# Altium schematic symbol library WeSchLib.SchLib: 56 symbols
Pins are listed as number, name and electrical type; pins without a type are passive.

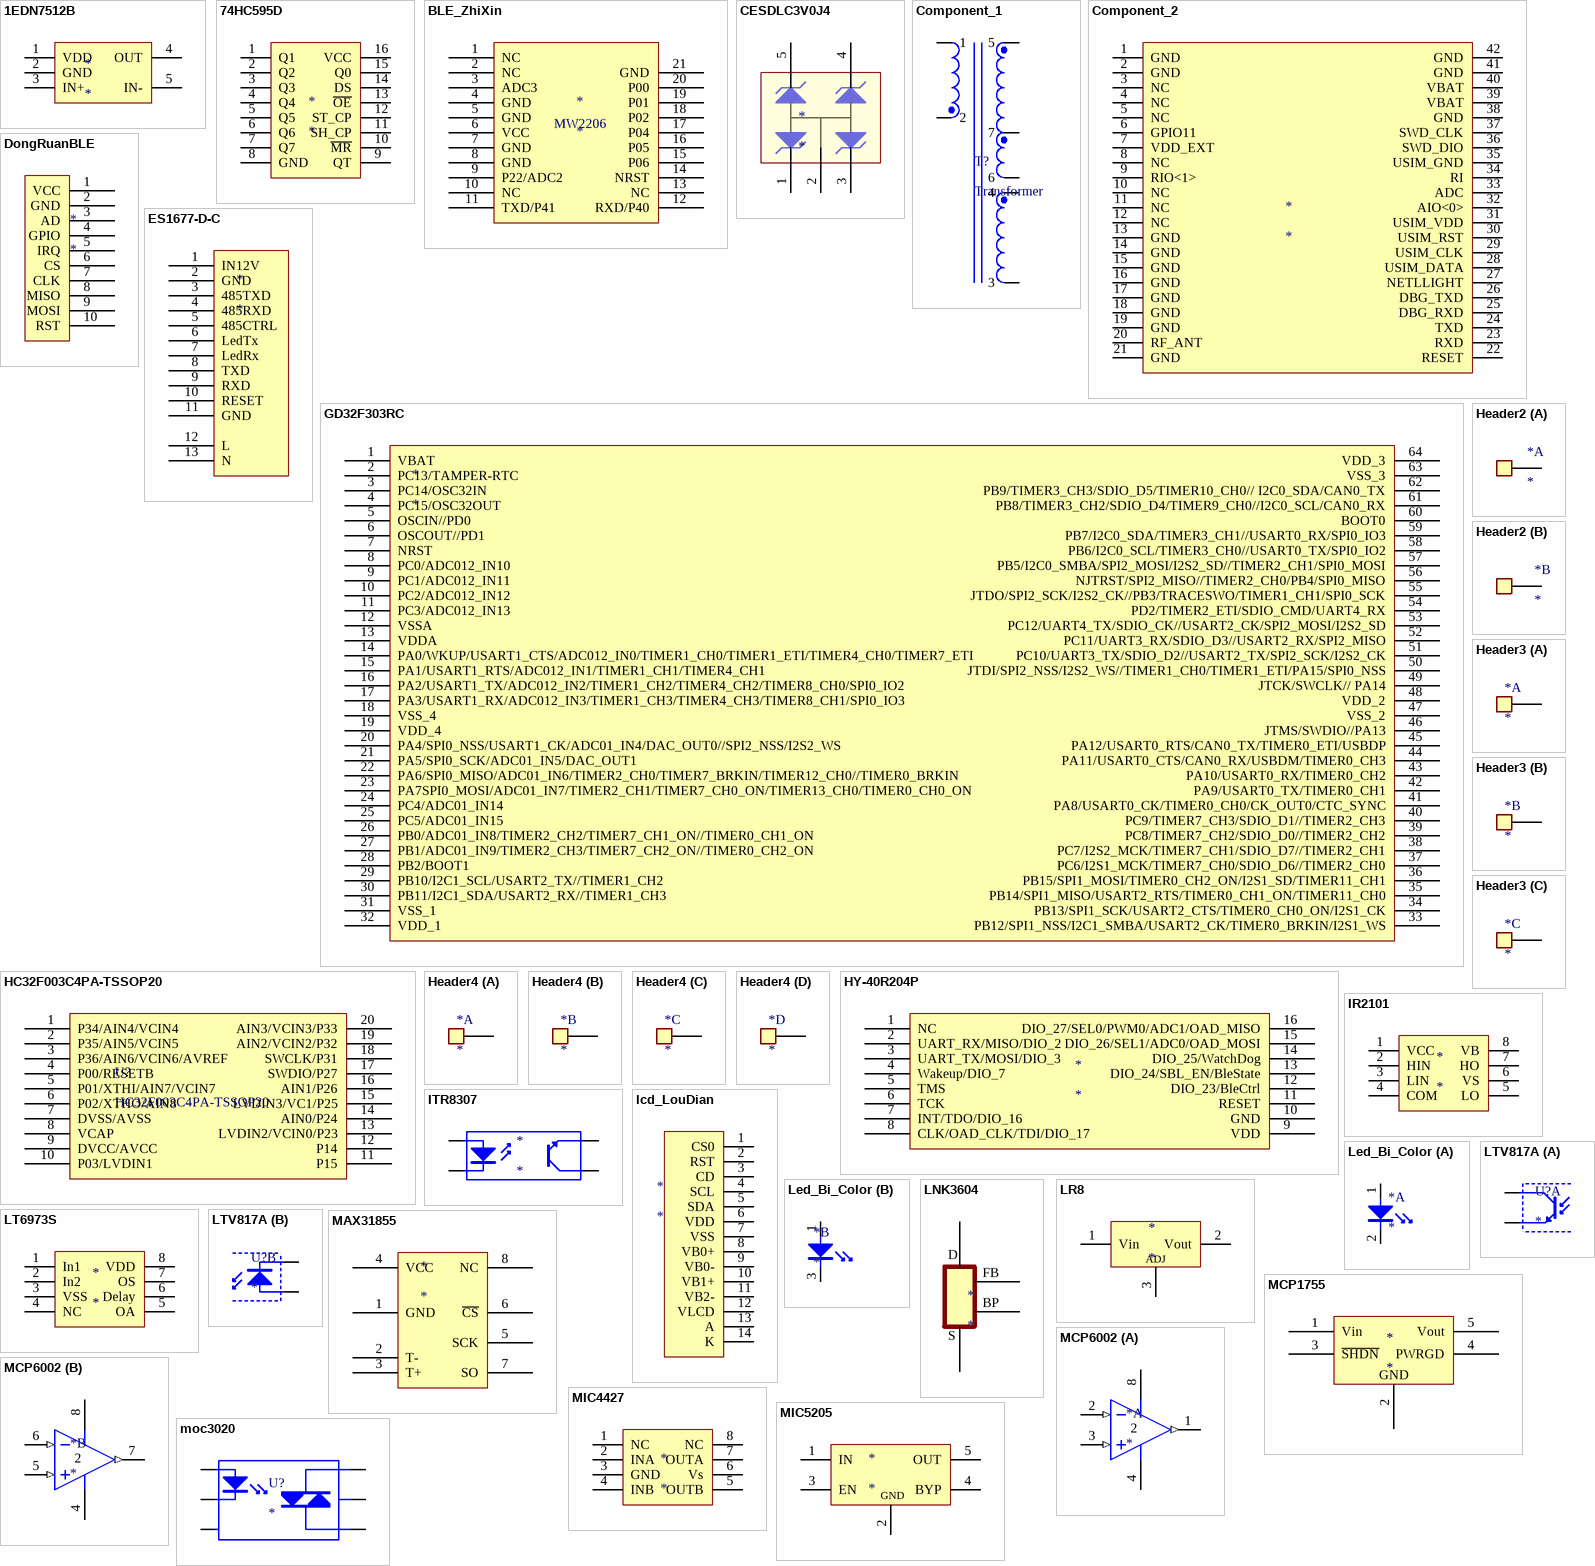
[diagram p0: symbols 1EDN7512B to moc3020]

## 1EDN7512B
designator *
pins: 1 VDD, 2 GND, 3 IN+, 4 OUT, 5 IN-

## 74HC595D
designator *
pins: 1 Q1, 2 Q2, 3 Q3, 4 Q4, 5 Q5, 6 Q6, 7 Q7, 8 GND, 9 QT, 10 ~{MR}, 11 SH_CP, 12 ST_CP, 13 ~{OE}, 14 DS, 15 Q0, 16 VCC

## BLE_ZhiXin
designator *
pins: 1 NC, 2 NC, 3 ADC3, 4 GND, 5 GND, 6 VCC, 7 GND, 8 GND, 9 P22/ADC2, 10 NC, 11 TXD/P41, 12 RXD/P40, 13 NC, 14 NRST, 15 P06, 16 P05, 17 P04, 18 P02, 19 P01, 20 P00, 21 GND
text: MW2206

## CESDLC3V0J4
designator *
pins: 1 K, 2 A, 3 K, 4 K, 5 K

## Component_1
designator T?, comment Transformer
pins: 1, 2, 3, 4, 5, 6, 7

## Component_2
designator *
pins: 1 GND, 2 GND, 3 NC, 4 NC, 5 NC, 6 GPIO11, 7 VDD_EXT, 8 NC, 9 RIO<1>, 10 NC, 11 NC, 12 NC, 13 GND, 14 GND, 15 GND, 16 GND, 17 GND, 18 GND, 19 GND, 20 RF_ANT, 21 GND, 22 RESET, 23 RXD, 24 TXD, 25 DBG_RXD, 26 DBG_TXD, 27 NETLLIGHT, 28 USIM_DATA, 29 USIM_CLK, 30 USIM_RST, 31 USIM_VDD, 32 AIO<0>, 33 ADC, 34 RI, 35 USIM_GND, 36 SWD_DIO, 37 SWD_CLK, 38 GND, 39 VBAT, 40 VBAT, 41 GND, 42 GND

## DongRuanBLE
designator *
pins: 1 VCC, 2 GND, 3 AD, 4 GPIO, 5 IRQ, 6 CS, 7 CLK, 8 MISO, 9 MOSI, 10 RST

## ES1677-D-C
designator *
pins: 1 IN12V, 2 GND, 3 485TXD, 4 485RXD, 5 485CTRL, 6 LedTx, 7 LedRx, 8 TXD, 9 RXD, 10 RESET, 11 GND, 12 L, 13 N

## GD32F303RC
designator *
pins: 1 VBAT, 2 PC13/TAMPER-RTC, 3 PC14/OSC32IN, 4 PC15/OSC32OUT, 5 OSCIN//PD0, 6 OSCOUT//PD1, 7 NRST, 8 PC0/ADC012_IN10, 9 PC1/ADC012_IN11, 10 PC2/ADC012_IN12, 11 PC3/ADC012_IN13, 12 VSSA, 13 VDDA, 14 PA0/WKUP/USART1_CTS/ADC012_IN0/TIMER1_CH0/TIMER1_ETI/TIMER4_CH0/TIMER7_ETI, 15 PA1/USART1_RTS/ADC012_IN1/TIMER1_CH1/TIMER4_CH1 , 16 PA2/USART1_TX/ADC012_IN2/TIMER1_CH2/TIMER4_CH2/TIMER8_CH0/SPI0_IO2, 17 PA3/USART1_RX/ADC012_IN3/TIMER1_CH3/TIMER4_CH3/TIMER8_CH1/SPI0_IO3, 18 VSS_4, 19 VDD_4, 20 PA4/SPI0_NSS/USART1_CK/ADC01_IN4/DAC_OUT0//SPI2_NSS/I2S2_WS, 21 PA5/SPI0_SCK/ADC01_IN5/DAC_OUT1, 22 PA6/SPI0_MISO/ADC01_IN6/TIMER2_CH0/TIMER7_BRKIN/TIMER12_CH0//TIMER0_BRKIN, 23 PA7SPI0_MOSI/ADC01_IN7/TIMER2_CH1/TIMER7_CH0_ON/TIMER13_CH0/TIMER0_CH0_ON, 24 PC4/ADC01_IN14, 25 PC5/ADC01_IN15, 26 PB0/ADC01_IN8/TIMER2_CH2/TIMER7_CH1_ON//TIMER0_CH1_ON, 27 PB1/ADC01_IN9/TIMER2_CH3/TIMER7_CH2_ON//TIMER0_CH2_ON, 28 PB2/BOOT1, 29 PB10/I2C1_SCL/USART2_TX//TIMER1_CH2, 30 PB11/I2C1_SDA/USART2_RX//TIMER1_CH3, 31 VSS_1, 32 VDD_1, 33 PB12/SPI1_NSS/I2C1_SMBA/USART2_CK/TIMER0_BRKIN/I2S1_WS, 34 PB13/SPI1_SCK/USART2_CTS/TIMER0_CH0_ON/I2S1_CK, 35 PB14/SPI1_MISO/USART2_RTS/TIMER0_CH1_ON/TIMER11_CH0, 36 PB15/SPI1_MOSI/TIMER0_CH2_ON/I2S1_SD/TIMER11_CH1, 37 PC6/I2S1_MCK/TIMER7_CH0/SDIO_D6//TIMER2_CH0, 38 PC7/I2S2_MCK/TIMER7_CH1/SDIO_D7//TIMER2_CH1, 39 PC8/TIMER7_CH2/SDIO_D0//TIMER2_CH2, 40 PC9/TIMER7_CH3/SDIO_D1//TIMER2_CH3, 41 PA8/USART0_CK/TIMER0_CH0/CK_OUT0/CTC_SYNC, 42 PA9/USART0_TX/TIMER0_CH1, 43 PA10/USART0_RX/TIMER0_CH2, 44 PA11/USART0_CTS/CAN0_RX/USBDM/TIMER0_CH3, 45 PA12/USART0_RTS/CAN0_TX/TIMER0_ETI/USBDP, 46 JTMS/SWDIO//PA13, 47 VSS_2, 48 VDD_2, 49 JTCK/SWCLK// PA14, 50 JTDI/SPI2_NSS/I2S2_WS//TIMER1_CH0/TIMER1_ETI/PA15/SPI0_NSS, 51 PC10/UART3_TX/SDIO_D2//USART2_TX/SPI2_SCK/I2S2_CK, 52 PC11/UART3_RX/SDIO_D3//USART2_RX/SPI2_MISO, 53 PC12/UART4_TX/SDIO_CK//USART2_CK/SPI2_MOSI/I2S2_SD, 54 PD2/TIMER2_ETI/SDIO_CMD/UART4_RX, 55 JTDO/SPI2_SCK/I2S2_CK//PB3/TRACESWO/TIMER1_CH1/SPI0_SCK, 56 NJTRST/SPI2_MISO//TIMER2_CH0/PB4/SPI0_MISO, 57 PB5/I2C0_SMBA/SPI2_MOSI/I2S2_SD//TIMER2_CH1/SPI0_MOSI, 58 PB6/I2C0_SCL/TIMER3_CH0//USART0_TX/SPI0_IO2, 59 PB7/I2C0_SDA/TIMER3_CH1//USART0_RX/SPI0_IO3, 60 BOOT0, 61 PB8/TIMER3_CH2/SDIO_D4/TIMER9_CH0//I2C0_SCL/CAN0_RX, 62 PB9/TIMER3_CH3/SDIO_D5/TIMER10_CH0// I2C0_SDA/CAN0_TX, 63 VSS_3, 64 VDD_3

## HC32F003C4PA-TSSOP20
designator U?
pins: 1 P34/AIN4/VCIN4, 2 P35/AIN5/VCIN5, 3 P36/AIN6/VCIN6/AVREF, 4 P00/RESETB, 5 P01/XTHI/AIN7/VCIN7, 6 P02/XTHO/AIN8, 7 DVSS/AVSS, 8 VCAP, 9 DVCC/AVCC, 10 P03/LVDIN1, 11 P15, 12 P14, 13 LVDIN2/VCIN0/P23, 14 AIN0/P24, 15 LVDIN3/VC1/P25, 16 AIN1/P26, 17 SWDIO/P27, 18 SWCLK/P31, 19 AIN2/VCIN2/P32, 20 AIN3/VCIN3/P33

## Header2
designator *
part A pins: 1
part B pins: 2

## Header3
designator *
part A pins: 1
part B pins: 2
part C pins: 3

## Header4
designator *
part A pins: 1
part B pins: 2
part C pins: 3
part D pins: 4

## HY-40R204P
designator *
pins: 1 NC, 2 UART_RX/MISO/DIO_2, 3 UART_TX/MOSI/DIO_3, 4 Wakeup/DIO_7, 5 TMS, 6 TCK, 7 INT/TDO/DIO_16, 8 CLK/OAD_CLK/TDI/DIO_17, 9 VDD, 10 GND, 11 RESET, 12 DIO_23/BleCtrl, 13 DIO_24/SBL_EN/BleState, 14 DIO_25/WatchDog, 15 DIO_26/SEL1/ADC0/OAD_MOSI, 16 DIO_27/SEL0/PWM0/ADC1/OAD_MISO

## IR2101
designator *
pins: 1 VCC, 2 HIN, 3 LIN, 4 COM, 5 LO, 6 VS, 7 HO, 8 VB

## ITR8307
designator *
footprint 光电开关ITR8307
pins: 1 cathode "Cathode", 2 anode "Anode", 3 collector "Emitter", 4 emitter "Collector"

## lcd_LouDian
designator *
footprint 液晶屏 (1813*1300mil)
pins: 1 CS0, 2 RST, 3 CD, 4 SCL, 5 SDA, 6 VDD, 7 VSS, 8 VB0+, 9 VB0-, 10 VB1+, 11 VB2-, 12 VLCD, 13 A, 14 K

## Led_Bi_Color
designator *
part A pins: 1 anode, 2 cathode
part B pins: 1 anode, 3 cathode

## LNK3604
designator *
pins: 1 BP/M, 2 FB, 4 D, 5 S, 6 S hidden to GND, 7 S hidden to GND, 8 S hidden to GND
text: BP

## LR8
designator *
pins: 1 Vin, 2 Vout, 3 ADJ

## LT6973S
designator *
pins: 1 In1, 2 In2, 3 VSS, 4 NC, 5 OA, 6 Delay, 7 OS, 8 VDD

## LTV817A
designator U?
part A pins: 3 emitter "Collector", 4 collector "Emitter"
part B pins: 1 collector "Emitter", 2 emitter "Collector"

## MAX31855
designator *
pins: 1 GND, 2 T-, 3 T+, 4 VCC, 5 SCK, 6 ~{CS}, 7 SO, 8 NC

## MCP1755
designator *
pins: 1 Vin, 2 GND, 3 ~{SHDN}, 4 PWRGD, 5 Vout

## MCP6002
designator *
part A pins: 1 OUT (out), 2 IN- (in), 3 IN+ (in), 4 GND (power), 8 V+ (power)
part B pins: 4 GND (power), 5 IN+ (in), 6 IN- (in), 7 OUT (out), 8 V+ (power)

## MIC4427
designator *
pins: 1 NC, 2 INA, 3 GND, 4 INB, 5 OUTB, 6 Vs, 7 OUTA, 8 NC

## MIC5205
designator *
pins: 1 IN, 2 GND, 3 EN, 4 BYP, 5 OUT

## moc3020
designator U?
footprint MOC3021 (SOP, 6-Leads, Body 8.6x6.5mm (max), Pitch 2.54mm, IPC Medium Density)
pins: 1 anode, 2 cathode, 3 nc, 4 main terminal, 5 substrate, 6 main terminal

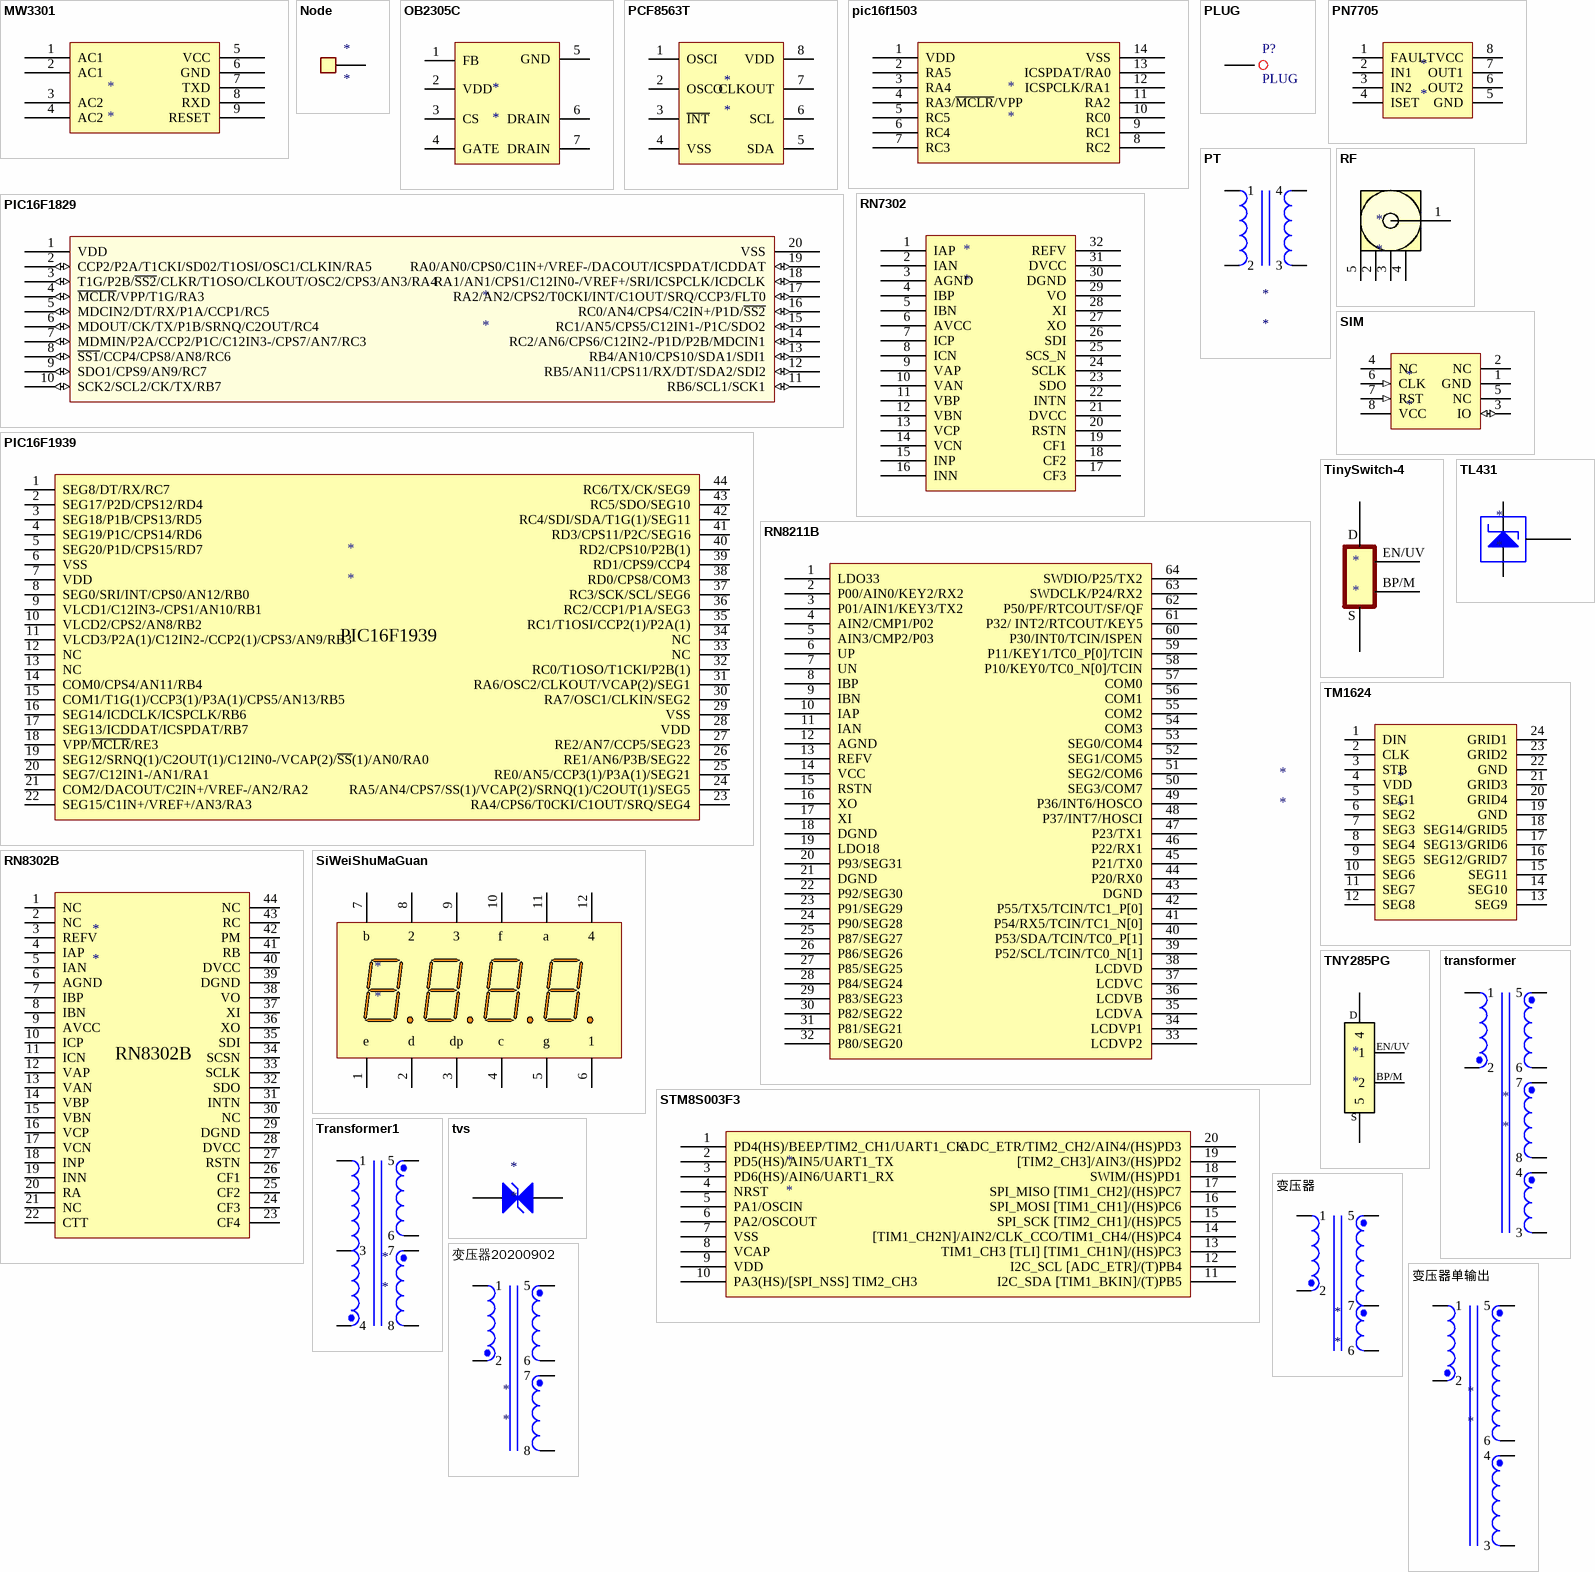
[diagram p1: symbols MW3301 to 变压器单输出]

## MW3301
designator *
pins: 1 AC1, 2 AC1, 3 AC2, 4 AC2, 5 VCC, 6 GND, 7 TXD, 8 RXD, 9 RESET

## Node
designator *
pins: 1

## OB2305C
designator *
pins: 1 FB, 2 VDD, 3 CS, 4 GATE, 5 GND, 6 DRAIN, 7 DRAIN

## PCF8563T
designator *
pins: 1 OSCI, 2 OSCO, 3 ~{INT}, 4 VSS, 5 SDA, 6 SCL, 7 CLKOUT, 8 VDD

## pic16f1503
designator *
pins: 1 VDD, 2 RA5, 3 RA4, 4 RA3/~{MCLR}/VPP, 5 RC5, 6 RC4, 7 RC3, 8 RC2, 9 RC1, 10 RC0, 11 RA2, 12 ICSPCLK/RA1, 13 ICSPDAT/RA0, 14 VSS

## PIC16F1829
designator *
pins: 1 VDD (power), 2 CCP2/P2A/T1CKI/SD02/T1OSI/OSC1/CLKIN/RA5 (io), 3 T1G/P2B/~{SS2}/CLKR/T1OSO/CLKOUT/OSC2/CPS3/AN3/RA4 (io), 4 ~{MCLR}/VPP/T1G/RA3 (io), 5 MDCIN2/DT/RX/P1A/CCP1/RC5 (io), 6 MDOUT/CK/TX/P1B/SRNQ/C2OUT/RC4 (io), 7 MDMIN/P2A/CCP2/P1C/C12IN3-/CPS7/AN7/RC3 (io), 8 ~{SS1}/CCP4/CPS8/AN8/RC6 (io), 9 SDO1/CPS9/AN9/RC7 (io), 10 SCK2/SCL2/CK/TX/RB7 (io), 11 RB6/SCL1/SCK1 (io), 12 RB5/AN11/CPS11/RX/DT/SDA2/SDI2 (io), 13 RB4/AN10/CPS10/SDA1/SDI1 (io), 14 RC2/AN6/CPS6/C12IN2-/P1D/P2B/MDCIN1 (io), 15 RC1/AN5/CPS5/C12IN1-/P1C/SDO2 (io), 16 RC0/AN4/CPS4/C2IN+/P1D/~{SS2} (io), 17 RA2/AN2/CPS2/T0CKI/INT/C1OUT/SRQ/CCP3/FLT0 (io), 18 RA1/AN1/CPS1/C12IN0-/VREF+/SRI/ICSPCLK/ICDCLK (io), 19 RA0/AN0/CPS0/C1IN+/VREF-/DACOUT/ICSPDAT/ICDDAT (io), 20 VSS (power)

## PIC16F1939
designator *
pins: 1 SEG8/DT/RX/RC7, 2 SEG17/P2D/CPS12/RD4, 3 SEG18/P1B/CPS13/RD5, 4 SEG19/P1C/CPS14/RD6, 5 SEG20/P1D/CPS15/RD7, 6 VSS, 7 VDD, 8 SEG0/SRI/INT/CPS0/AN12/RB0, 9 VLCD1/C12IN3-/CPS1/AN10/RB1, 10 VLCD2/CPS2/AN8/RB2, 11 VLCD3/P2A(1)/C12IN2-/CCP2(1)/CPS3/AN9/RB3, 12 NC, 13 NC, 14 COM0/CPS4/AN11/RB4, 15 COM1/T1G(1)/CCP3(1)/P3A(1)/CPS5/AN13/RB5, 16 SEG14/ICDCLK/ICSPCLK/RB6, 17 SEG13/ICDDAT/ICSPDAT/RB7, 18 VPP/~{MCLR}/RE3, 19 SEG12/SRNQ(1)/C2OUT(1)/C12IN0-/VCAP(2)/~{SS}(1)/AN0/RA0, 20 SEG7/C12IN1-/AN1/RA1, 21 COM2/DACOUT/C2IN+/VREF-/AN2/RA2, 22 SEG15/C1IN+/VREF+/AN3/RA3, 23 RA4/CPS6/T0CKI/C1OUT/SRQ/SEG4, 24 RA5/AN4/CPS7/SS(1)/VCAP(2)/SRNQ(1)/C2OUT(1)/SEG5, 25 RE0/AN5/CCP3(1)/P3A(1)/SEG21, 26 RE1/AN6/P3B/SEG22, 27 RE2/AN7/CCP5/SEG23, 28 VDD, 29 VSS, 30 RA7/OSC1/CLKIN/SEG2, 31 RA6/OSC2/CLKOUT/VCAP(2)/SEG1, 32 RC0/T1OSO/T1CKI/P2B(1), 33 NC, 34 NC, 35 RC1/T1OSI/CCP2(1)/P2A(1), 36 RC2/CCP1/P1A/SEG3, 37 RC3/SCK/SCL/SEG6, 38 RD0/CPS8/COM3, 39 RD1/CPS9/CCP4, 40 RD2/CPS10/P2B(1), 41 RD3/CPS11/P2C/SEG16, 42 RC4/SDI/SDA/T1G(1)/SEG11, 43 RC5/SDO/SEG10, 44 RC6/TX/CK/SEG9

## PLUG
designator P?
pins: 1

## PN7705
designator *
pins: 1 FAULT, 2 IN1, 3 IN2, 4 ISET, 5 GND, 6 OUT2, 7 OUT1, 8 VCC

## PT
designator *
pins: 1, 2, 3, 4

## RF
designator *
pins: 1 0, 2 1, 3 2, 4 3, 5 4

## RN7302
designator *
pins: 1 IAP, 2 IAN, 3 AGND, 4 IBP, 5 IBN, 6 AVCC, 7 ICP, 8 ICN, 9 VAP, 10 VAN, 11 VBP, 12 VBN, 13 VCP, 14 VCN, 15 INP, 16 INN, 17 CF3, 18 CF2, 19 CF1, 20 RSTN, 21 DVCC, 22 INTN, 23 SDO, 24 SCLK, 25 SCS_N, 26 SDI, 27 XO, 28 XI, 29 VO, 30 DGND, 31 DVCC, 32 REFV

## RN8211B
designator *
pins: 1 LDO33, 2 P00/AIN0/KEY2/RX2, 3 P01/AIN1/KEY3/TX2, 4 AIN2/CMP1/P02, 5 AIN3/CMP2/P03, 6 UP, 7 UN, 8 IBP, 9 IBN, 10 IAP, 11 IAN, 12 AGND, 13 REFV, 14 VCC, 15 RSTN, 16 XO, 17 XI, 18 DGND, 19 LDO18, 20 P93/SEG31, 21 DGND, 22 P92/SEG30, 23 P91/SEG29, 24 P90/SEG28, 25 P87/SEG27, 26 P86/SEG26, 27 P85/SEG25, 28 P84/SEG24, 29 P83/SEG23, 30 P82/SEG22, 31 P81/SEG21, 32 P80/SEG20, 33 LCDVP2, 34 LCDVP1, 35 LCDVA, 36 LCDVB, 37 LCDVC, 38 LCDVD, 39 P52/SCL/TCIN/TC0_N[1], 40 P53/SDA/TCIN/TC0_P[1], 41 P54/RX5/TCIN/TC1_N[0], 42 P55/TX5/TCIN/TC1_P[0], 43 DGND, 44 P20/RX0, 45 P21/TX0, 46 P22/RX1, 47 P23/TX1, 48 P37/INT7/HOSCI, 49 P36/INT6/HOSCO, 50 SEG3/COM7, 51 SEG2/COM6, 52 SEG1/COM5, 53 SEG0/COM4, 54 COM3, 55 COM2, 56 COM1, 57 COM0, 58 P10/KEY0/TC0_N[0]/TCIN, 59 P11/KEY1/TC0_P[0]/TCIN, 60 P30/INT0/TCIN/ISPEN, 61 P32/ INT2/RTCOUT/KEY5, 62 P50/PF/RTCOUT/SF/QF, 63 SWDCLK/P24/RX2, 64 SWDIO/P25/TX2

## RN8302B
designator *
pins: 1 NC, 2 NC, 3 REFV, 4 IAP, 5 IAN, 6 AGND, 7 IBP, 8 IBN, 9 AVCC, 10 ICP, 11 ICN, 12 VAP, 13 VAN, 14 VBP, 15 VBN, 16 VCP, 17 VCN, 18 INP, 19 INN, 20 RA, 21 NC, 22 CTT, 23 CF4, 24 CF3, 25 CF2, 26 CF1, 27 RSTN, 28 DVCC, 29 DGND, 30 NC, 31 INTN, 32 SDO, 33 SCLK, 34 SCSN, 35 SDI, 36 XO, 37 XI, 38 VO, 39 DGND, 40 DVCC, 41 RB, 42 PM, 43 RC, 44 NC

## SIM
designator *
pins: 1 GND, 2 NC, 3 IO (io), 4 NC, 5 NC, 6 CLK (in), 7 RST (in), 8 VCC

## SiWeiShuMaGuan
designator *
footprint 四位数码管
pins: 1 e "Anode", 2 d "Cathode", 3 dp "Cathode", 4 c "Cathode", 5 g "Cathode", 6 1 "Anode", 7 b "Cathode", 8 2 "Cathode", 9 3 "Cathode", 10 f "Cathode", 11 a "Cathode", 12 4 "Cathode"

## STM8S003F3
designator *
pins: 1 PD4(HS)/BEEP/TIM2_CH1/UART1_CK, 2 PD5(HS)/AIN5/UART1_TX, 3 PD6(HS)/AIN6/UART1_RX, 4 NRST, 5 PA1/OSCIN, 6 PA2/OSCOUT, 7 VSS, 8 VCAP, 9 VDD, 10 PA3(HS)/[SPI_NSS] TIM2_CH3, 11 I2C_SDA [TIM1_BKIN]/(T)PB5, 12 I2C_SCL [ADC_ETR]/(T)PB4, 13 TIM1_CH3 [TLI] [TIM1_CH1N]/(HS)PC3, 14 [TIM1_CH2N]/AIN2/CLK_CCO/TIM1_CH4/(HS)PC4, 15 SPI_SCK [TIM2_CH1]/(HS)PC5, 16 SPI_MOSI [TIM1_CH1]/(HS)PC6, 17 SPI_MISO [TIM1_CH2]/(HS)PC7, 18 SWIM/(HS)PD1, 19 [TIM2_CH3]/AIN3/(HS)PD2, 20 ADC_ETR/TIM2_CH2/AIN4/(HS)PD3

## TinySwitch-4
designator *
pins: 1 EN/UV, 2 BP/M, 4 D, 5 S, 6 S hidden to S, 7 S hidden to S, 8 S hidden to S

## TL431
designator *
pins: 1 A, 2 K, 3 ref

## TM1624
designator *
footprint SOP24--TM1624 (SOP, 24-Leads, Body 15.4x7.6mm (max), Pitch 1.27mm, IPC Medium Density)
pins: 1 DIN, 2 CLK, 3 STB, 4 VDD, 5 SEG1, 6 SEG2, 7 SEG3, 8 SEG4, 9 SEG5, 10 SEG6, 11 SEG7, 12 SEG8, 13 SEG9, 14 SEG10, 15 SEG11, 16 SEG12/GRID7, 17 SEG13/GRID6, 18 SEG14/GRID5, 19 GND, 20 GRID4, 21 GRID3, 22 GND, 23 GRID2, 24 GRID1

## TNY285PG
designator *
pins: 1, 2, 4, 5, 6 S hidden, 6 hidden to 5, 7 S hidden to 5, 8 S hidden to 5
text: D; EN/UV; BP/M

## transformer
designator *
pins: 1, 2, 3, 4, 5, 6, 7, 8

## Transformer1
designator *
pins: 1, 3, 4, 5, 6, 7, 8

## tvs
designator *
pins: 1 A, 2 K

## 变压器
designator *
pins: 1, 2, 5, 6, 7

## 变压器20200902
designator *
pins: 1, 2, 5, 6, 7, 8

## 变压器单输出
designator *
pins: 1, 2, 3, 4, 5, 6

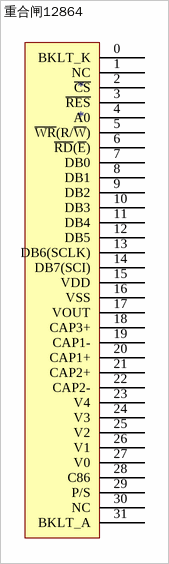
[diagram p2: symbol 重合闸12864]

## 重合闸12864
designator *
pins: 0 BKLT_K, 1 NC, 2 ~{CS}, 3 ~{RES}, 4 A0, 5 ~{WR}(R/~{W}), 6 ~{RD}(~{E}), 7 DB0, 8 DB1, 9 DB2, 10 DB3, 11 DB4, 12 DB5, 13 DB6(SCLK), 14 DB7(SCI), 15 VDD, 16 VSS, 17 VOUT, 18 CAP3+, 19 CAP1-, 20 CAP1+, 21 CAP2+, 22 CAP2-, 23 V4, 24 V3, 25 V2, 26 V1, 27 V0, 28 C86, 29 P/S, 30 NC, 31 BKLT_A